# EAGLE library part 61003021121 (library Wurth_Elektronik_Electromechanic_Board_to_Board_Connectors_rev16a)
WR-PHD 2.54mm Dual SMT Pin Header, 30 Pins =>Code : Con_BTB_PHD_2.54_2_61003021121 <http://katalog.we-online.de/media/images/eican/Con_BTB_PHD_2.54_2_6100xx21121_pf2.jpg> Details see: http://katalog.we-online.de/en/em/610_0xx_211_21 Created 2014-05-29, Karrer Zheng 2014 (C) Würth Elektronik
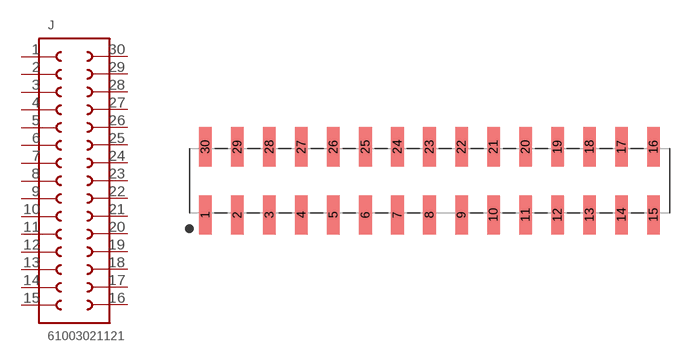
[diagram p84: symbol with the pads of 61003021121; footprint 61003021121]

Designator prefix J

## 61003021121  [61003021121]
1  1  pas
2  2  pas
3  3  pas
4  4  pas
5  5  pas
6  6  pas
7  7  pas
8  8  pas
9  9  pas
10  10  pas
11  11  pas
12  12  pas
13  13  pas
14  14  pas
15  15  pas
16  16  pas
17  17  pas
18  18  pas
19  19  pas
20  20  pas
21  21  pas
22  22  pas
23  23  pas
24  24  pas
25  25  pas
26  26  pas
27  27  pas
28  28  pas
29  29  pas
30  30  pas

## Footprint 61003021121 (pad centres in mm)
WR-PHD 2.54mm Dual SMT Pin Header, 30 Pins
smd 1 x 3.1: 1 -17.78,-2.7; 2 -15.24,-2.7; 3 -12.7,-2.7; 4 -10.16,-2.7; 5 -7.62,-2.7; 6 -5.08,-2.7; 7 -2.54,-2.7; 8 0,-2.7; 9 2.54,-2.7; 10 5.08,-2.7; 11 7.62,-2.7; 12 10.16,-2.7; 13 12.7,-2.7; 14 15.24,-2.7; 15 17.78,-2.7; 16 17.78,2.7; 17 15.24,2.7; 18 12.7,2.7; 19 10.16,2.7; 20 7.62,2.7; 21 5.08,2.7; 22 2.54,2.7; 23 0,2.7; 24 -2.54,2.7; 25 -5.08,2.7; 26 -7.62,2.7; 27 -10.16,2.7; 28 -12.7,2.7; 29 -15.24,2.7; 30 -17.78,2.7